# EAGLE library part SLIDER (library SmallRoomLabs)
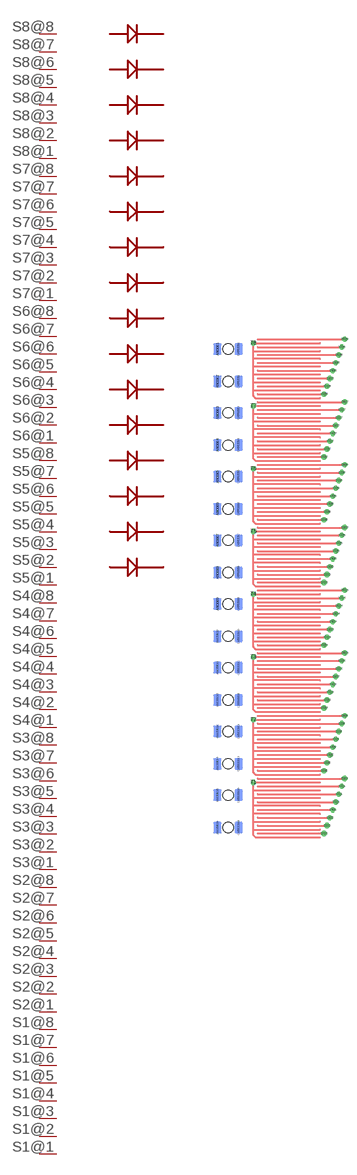
[diagram p23: symbol with the pads of SLIDER1; footprint SLIDER1]

Designator prefix -

## SLIDER  [SLIDER1]
ANODE1  ANODE1
ANODE2  ANODE2
ANODE3  ANODE3
ANODE4  ANODE4
ANODE5  ANODE5
ANODE6  ANODE6
ANODE7  ANODE7
ANODE8  ANODE8
ANODE9  ANODE9
ANODE10  ANODE10
ANODE11  ANODE11
ANODE12  ANODE12
ANODE13  ANODE13
ANODE14  ANODE14
ANODE15  ANODE15
ANODE16  ANODE16
CATHODE1  CATHODE1
CATHODE2  CATHODE2
CATHODE3  CATHODE3
CATHODE4  CATHODE4
CATHODE5  CATHODE5
CATHODE6  CATHODE6
CATHODE7  CATHODE7
CATHODE8  CATHODE8
CATHODE9  CATHODE9
CATHODE10  CATHODE10
CATHODE11  CATHODE11
CATHODE12  CATHODE12
CATHODE13  CATHODE13
CATHODE14  CATHODE14
CATHODE15  CATHODE15
CATHODE16  CATHODE16
S1@1  P$1
S1@2  P$2
S1@3  P$3
S1@4  P$4
S1@5  P$5
S1@6  P$6
S1@7  P$7
S1@8  P$8
S2@1  P$9
S2@2  P$10
S2@3  P$11
S2@4  P$12
S2@5  P$13
S2@6  P$14
S2@7  P$15
S2@8  P$16
S3@1  P$17
S3@2  P$18
S3@3  P$19
S3@4  P$20
S3@5  P$21
S3@6  P$22
S3@7  P$23
S3@8  P$24
S4@1  P$25
S4@2  P$26
S4@3  P$27
S4@4  P$28
S4@5  P$29
S4@6  P$30
S4@7  P$31
S4@8  P$32
S5@1  P$33
S5@2  P$34
S5@3  P$35
S5@4  P$36
S5@5  P$37
S5@6  P$38
S5@7  P$39
S5@8  P$40
S6@1  P$41
S6@2  P$42
S6@3  P$43
S6@4  P$44
S6@5  P$45
S6@6  P$46
S6@7  P$47
S6@8  P$48
S7@1  P$49
S7@2  P$50
S7@3  P$51
S7@4  P$52
S7@5  P$53
S7@6  P$54
S7@7  P$55
S7@8  P$56
S8@1  P$57
S8@2  P$58
S8@3  P$59
S8@4  P$60
S8@5  P$61
S8@6  P$62
S8@7  P$63
S8@8  P$64

## Footprint SLIDER1 (pad centres in mm)
smd 1.3 x 1.8 bottom: ANODE1 -5.921,75.895; ANODE2 -5.921,70.866; ANODE3 -5.921,65.989; ANODE4 -5.921,60.96; ANODE5 -5.921,56.083; ANODE6 -5.921,51.054; ANODE7 -5.921,46.177; ANODE8 -5.921,41.148; ANODE9 -5.921,36.271; ANODE10 -5.921,31.242; ANODE11 -5.921,26.365; ANODE12 -5.921,21.336; ANODE13 -5.921,16.459; ANODE14 -5.921,11.43; ANODE15 -5.921,6.553; ANODE16 -5.921,1.524; CATHODE1 -2.613,75.895; CATHODE2 -2.613,70.866; CATHODE3 -2.613,65.989; CATHODE4 -2.613,60.96; CATHODE5 -2.613,56.083; CATHODE6 -2.613,51.054; CATHODE7 -2.613,46.177; CATHODE8 -2.613,41.148; CATHODE9 -2.613,36.271; CATHODE10 -2.613,31.242; CATHODE11 -2.613,26.365; CATHODE12 -2.613,21.336; CATHODE13 -2.613,16.459; CATHODE14 -2.613,11.43; CATHODE15 -2.613,6.553; CATHODE16 -2.613,1.524
drill 0.305 pad 0.61 octagon: S1@1 10.668,0.61; S1@2 10.668,10.363; S1@3 10.668,20.117; S1@4 10.668,29.87; S1@5 10.668,39.624; S1@6 10.668,49.378; S1@7 10.668,59.131; S1@8 10.668,68.885; S2@1 11.125,1.829; S2@2 11.125,11.582; S2@3 11.125,21.336; S2@4 11.125,31.09; S2@5 11.125,40.843; S2@6 11.125,50.597; S2@7 11.125,60.35; S2@8 11.125,70.104; S3@1 11.582,3.048; S3@2 11.582,12.802; S3@3 11.582,22.555; S3@4 11.582,32.309; S3@5 11.582,42.062; S3@6 11.582,51.816; S3@7 11.582,61.57; S3@8 11.582,71.323; S4@1 12.04,4.267; S4@2 12.04,14.021; S4@3 12.04,23.774; S4@4 12.04,33.528; S4@5 12.04,43.282; S4@6 12.04,53.035; S4@7 12.04,62.789; S4@8 12.04,72.542; S5@1 12.497,5.486; S5@2 12.497,15.24; S5@3 12.497,24.994; S5@4 12.497,34.747; S5@5 12.497,44.501; S5@6 12.497,54.254; S5@7 12.497,64.008; S5@8 12.497,73.762; S6@1 12.954,6.706; S6@2 12.954,16.459; S6@3 12.954,26.213; S6@4 12.954,35.966; S6@5 12.954,45.72; S6@6 12.954,55.474; S6@7 12.954,65.227; S6@8 12.954,74.981; S7@1 13.411,7.925; S7@2 13.411,17.678; S7@3 13.411,27.432; S7@4 13.411,37.186; S7@5 13.411,46.939; S7@6 13.411,56.693; S7@7 13.411,66.446; S7@8 13.411,76.2; S8@1 13.868,9.144; S8@2 13.868,18.898; S8@3 13.868,28.651; S8@4 13.868,38.405; S8@5 13.868,48.158; S8@6 13.868,57.912; S8@7 13.868,67.666; S8@8 13.868,77.419; T1 -0.33,8.509; T2 -0.33,18.263; T3 -0.33,28.016; T4 -0.33,37.77; T5 -0.33,47.523; T6 -0.33,57.277; T7 -0.33,67.031; T8 -0.33,76.784
hole 1.6 at -4.267,1.524
hole 1.6 at -4.267,6.553
hole 1.6 at -4.267,11.43
hole 1.6 at -4.267,16.459
hole 1.6 at -4.267,21.336
hole 1.6 at -4.267,26.365
hole 1.6 at -4.267,31.242
hole 1.6 at -4.267,36.271
hole 1.6 at -4.267,41.148
hole 1.6 at -4.267,46.177
hole 1.6 at -4.267,51.054
hole 1.6 at -4.267,56.083
hole 1.6 at -4.267,60.96
hole 1.6 at -4.267,65.989
hole 1.6 at -4.267,70.866
hole 1.6 at -4.267,75.895